# EAGLE library part ETRAX_LX100_MCM_ALL (library axis)
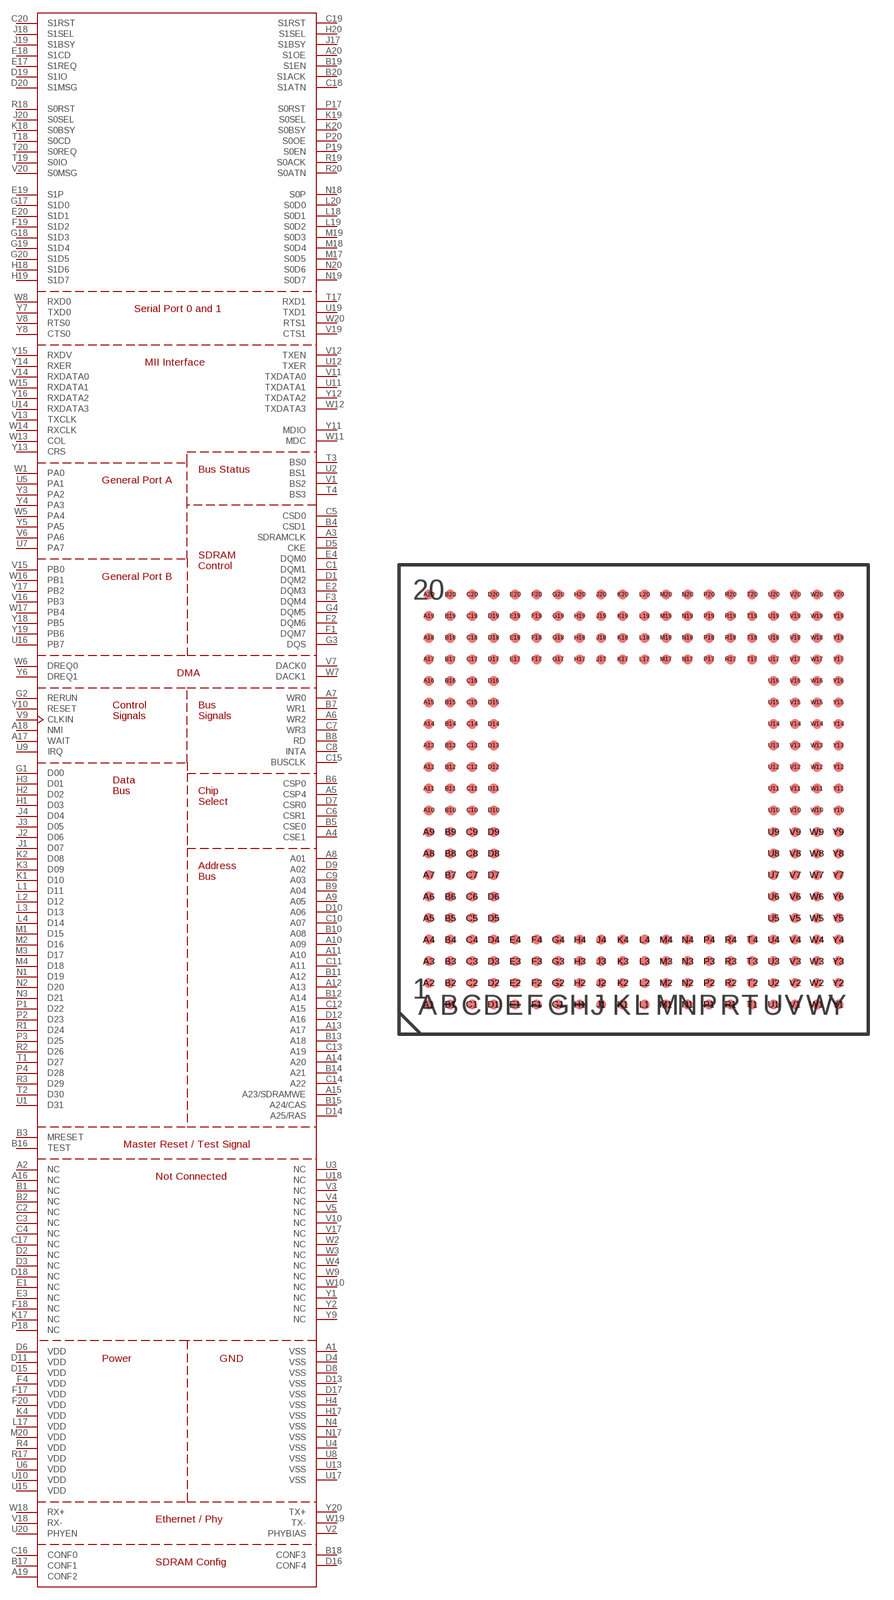
[diagram p0: symbol with the pads of BGA256; footprint BGA256]

Designator prefix -

## ETRAX_LX100_MCM_ALL  [BGA256]
A1  VSS  pwr
A2  NC  nc
A3  SDRAMCLK  out
A4  CSE1  out
A5  CSP4  out
A6  WR2  out
A7  WR0  out
A8  A01  out
A9  A05  out
A10  A09  out
A11  A10  out
A12  A13  out
A13  A17  out
A14  A20  out
A15  A23/SDRAMWE  out
A16  NC  nc
A17  WAIT  in
A18  NMI  in
A19  CONF2
A20  S1OE
B1  NC  nc
B2  NC  nc
B3  MRESET
B4  CSD1  out
B5  CSE0  out
B6  CSP0  out
B7  WR1  out
B8  RD  out
B9  A04  out
B10  A08  out
B11  A12  out
B12  A14  out
B13  A18  out
B14  A21  out
B15  A24/CAS  out
B16  TEST  in
B17  CONF1
B18  CONF3
B19  S1EN
B20  S1ACK
C1  DQM1  out
C2  NC  nc
C3  NC  nc
C4  NC  nc
C5  CSD0  out
C6  CSR1  out
C7  WR3  out
C8  INTA  out
C9  A03  out
C10  A07  out
C11  A11  out
C12  A15  out
C13  A19  out
C14  A22  out
C15  BUSCLK  out
C16  CONF0
C17  NC  nc
C18  S1ATN
C19  S1RST
C20  S1RST
D1  DQM2  out
D2  NC  nc
D3  NC  nc
D4  VSS  pwr
D5  CKE  out
D6  VDD  pwr
D7  CSR0  out
D8  VSS  pwr
D9  A02  out
D10  A06  out
D11  VDD  pwr
D12  A16  out
D13  VSS  pwr
D14  A25/RAS  out
D15  VDD  pwr
D16  CONF4
D17  VSS  pwr
D18  NC  nc
D19  S1IO
D20  S1MSG
E1  NC  nc
E2  DQM3  out
E3  NC  nc
E4  DQM0  out
E17  S1REQ
E18  S1CD
E19  S1P
E20  S1D1
F1  DQM7  out
F2  DQM6  out
F3  DQM4  out
F4  VDD  pwr
F17  VDD  pwr
F18  NC  nc
F19  S1D2
F20  VDD  pwr
G1  D00
G2  RERUN  in
G3  DQS  out
G4  DQM5  out
G17  S1D0
G18  S1D3
G19  S1D4
G20  S1D5
H1  D03
H2  D02
H3  D01
H4  VSS  pwr
H17  VSS  pwr
H18  S1D6
H19  S1D7
H20  S1SEL
J1  D07
J2  D06
J3  D05
J4  D04
J17  S1BSY
J18  S1SEL
J19  S1BSY
J20  S0SEL
K1  D10
K2  D08
K3  D09
K4  VDD  pwr
K17  NC  nc
K18  S0BSY
K19  S0SEL
K20  S0BSY
L1  D11
L2  D12
L3  D13
L4  D14
L17  VDD  pwr
L18  S0D1
L19  S0D2
L20  S0D0
M1  D15
M2  D16
M3  D17
M4  D18
M17  S0D5
M18  S0D4
M19  S0D3
M20  VDD  pwr
N1  D19
N2  D20
N3  D21
N4  VSS  pwr
N17  VSS  pwr
N18  S0P
N19  S0D7
N20  S0D6
P1  D22
P2  D23
P3  D25
P4  D28
P17  S0RST
P18  NC  nc
P19  S0EN
P20  S0OE
R1  D24
R2  D26
R3  D29
R4  VDD  pwr
R17  VDD  pwr
R18  S0RST
R19  S0ACK
R20  S0ATN
T1  D27
T2  D30
T3  BS0
T4  BS3
T17  RXD1  in
T18  S0CD
T19  S0IO
T20  S0REQ
U1  D31
U2  BS1
U3  NC  nc
U4  VSS  pwr
U5  PA1
U6  VDD  pwr
U7  PA7
U8  VSS  pwr
U9  IRQ  in
U10  VDD  pwr
U11  TXDATA1  out
U12  TXER  out
U13  VSS  pwr
U14  RXDATA3  in
U15  VDD  pwr
U16  PB7
U17  VSS  pwr
U18  NC  nc
U19  TXD1  out
U20  PHYEN
V1  BS2
V2  PHYBIAS
V3  NC  nc
V4  NC  nc
V5  NC  nc
V6  PA6
V7  DACK0  out
V8  RTS0  out
V9  CLKIN  in
V10  NC  nc
V11  TXDATA0  out
V12  TXEN  out
V13  TXCLK  in
V14  RXDATA0  in
V15  PB0
V16  PB3
V17  NC  nc
V18  RX-
V19  CTS1  in
V20  S0MSG
W1  PA0
W2  NC  nc
W3  NC  nc
W4  NC  nc
W5  PA4
W6  DREQ0  in
W7  DACK1  out
W8  RXD0  in
W9  NC  nc
W10  NC  nc
W11  MDC  out
W12  TXDATA3  out
W13  COL  in
W14  RXCLK  in
W15  RXDATA1  in
W16  PB1
W17  PB4
W18  RX+
W19  TX-
W20  RTS1  out
Y1  NC  nc
Y2  NC  nc
Y3  PA2
Y4  PA3
Y5  PA5
Y6  DREQ1  in
Y7  TXD0  out
Y8  CTS0  in
Y9  NC  nc
Y10  RESET  in
Y11  MDIO
Y12  TXDATA2  out
Y13  CRS  in
Y14  RXER  in
Y15  RXDV  in
Y16  RXDATA2  in
Y17  PB2
Y18  PB5
Y19  PB6
Y20  TX+

## Footprint BGA256 (pad centres in mm)
BGA256
smd 0.584 x 0.584: A1 -12.065,-12.065; A2 -12.065,-10.795; A3 -12.065,-9.525; A4 -12.065,-8.255; A5 -12.065,-6.985; A6 -12.065,-5.715; A7 -12.065,-4.445; A8 -12.065,-3.175; A9 -12.065,-1.905; A10 -12.065,-0.635; A11 -12.065,0.635; A12 -12.065,1.905; A13 -12.065,3.175; A14 -12.065,4.445; A15 -12.065,5.715; A16 -12.065,6.985; A17 -12.065,8.255; A18 -12.065,9.525; A19 -12.065,10.795; A20 -12.065,12.065; B1 -10.795,-12.065; B2 -10.795,-10.795; B3 -10.795,-9.525; B4 -10.795,-8.255; B5 -10.795,-6.985; B6 -10.795,-5.715; B7 -10.795,-4.445; B8 -10.795,-3.175; B9 -10.795,-1.905; B10 -10.795,-0.635; B11 -10.795,0.635; B12 -10.795,1.905; B13 -10.795,3.175; B14 -10.795,4.445; B15 -10.795,5.715; B16 -10.795,6.985; B17 -10.795,8.255; B18 -10.795,9.525; B19 -10.795,10.795; B20 -10.795,12.065; C1 -9.525,-12.065; C2 -9.525,-10.795; C3 -9.525,-9.525; C4 -9.525,-8.255; C5 -9.525,-6.985; C6 -9.525,-5.715; C7 -9.525,-4.445; C8 -9.525,-3.175; C9 -9.525,-1.905; C10 -9.525,-0.635; C11 -9.525,0.635; C12 -9.525,1.905; C13 -9.525,3.175; C14 -9.525,4.445; C15 -9.525,5.715; C16 -9.525,6.985; C17 -9.525,8.255; C18 -9.525,9.525; C19 -9.525,10.795; C20 -9.525,12.065; D1 -8.255,-12.065; D2 -8.255,-10.795; D3 -8.255,-9.525; D4 -8.255,-8.255; D5 -8.255,-6.985; D6 -8.255,-5.715; D7 -8.255,-4.445; D8 -8.255,-3.175; D9 -8.255,-1.905; D10 -8.255,-0.635; D11 -8.255,0.635; D12 -8.255,1.905; D13 -8.255,3.175; D14 -8.255,4.445; D15 -8.255,5.715; D16 -8.255,6.985; D17 -8.255,8.255; D18 -8.255,9.525; D19 -8.255,10.795; D20 -8.255,12.065; E1 -6.985,-12.065; E2 -6.985,-10.795; E3 -6.985,-9.525; E4 -6.985,-8.255; E17 -6.985,8.255; E18 -6.985,9.525; E19 -6.985,10.795; E20 -6.985,12.065; F1 -5.715,-12.065; F2 -5.715,-10.795; F3 -5.715,-9.525; F4 -5.715,-8.255; F17 -5.715,8.255; F18 -5.715,9.525; F19 -5.715,10.795; F20 -5.715,12.065; G1 -4.445,-12.065; G2 -4.445,-10.795; G3 -4.445,-9.525; G4 -4.445,-8.255; G17 -4.445,8.255; G18 -4.445,9.525; G19 -4.445,10.795; G20 -4.445,12.065; H1 -3.175,-12.065; H2 -3.175,-10.795; H3 -3.175,-9.525; H4 -3.175,-8.255; H17 -3.175,8.255; H18 -3.175,9.525; H19 -3.175,10.795; H20 -3.175,12.065; J1 -1.905,-12.065; J2 -1.905,-10.795; J3 -1.905,-9.525; J4 -1.905,-8.255; J17 -1.905,8.255; J18 -1.905,9.525; J19 -1.905,10.795; J20 -1.905,12.065; K1 -0.635,-12.065; K2 -0.635,-10.795; K3 -0.635,-9.525; K4 -0.635,-8.255; K17 -0.635,8.255; K18 -0.635,9.525; K19 -0.635,10.795; K20 -0.635,12.065; L1 0.635,-12.065; L2 0.635,-10.795; L3 0.635,-9.525; L4 0.635,-8.255; L17 0.635,8.255; L18 0.635,9.525; L19 0.635,10.795; L20 0.635,12.065; M1 1.905,-12.065; M2 1.905,-10.795; M3 1.905,-9.525; M4 1.905,-8.255; M17 1.905,8.255; M18 1.905,9.525; M19 1.905,10.795; M20 1.905,12.065; N1 3.175,-12.065; N2 3.175,-10.795; N3 3.175,-9.525; N4 3.175,-8.255; N17 3.175,8.255; N18 3.175,9.525; N19 3.175,10.795; N20 3.175,12.065; P1 4.445,-12.065; P2 4.445,-10.795; P3 4.445,-9.525; P4 4.445,-8.255; P17 4.445,8.255; P18 4.445,9.525; P19 4.445,10.795; P20 4.445,12.065; R1 5.715,-12.065; R2 5.715,-10.795; R3 5.715,-9.525; R4 5.715,-8.255; R17 5.715,8.255; R18 5.715,9.525; R19 5.715,10.795; R20 5.715,12.065; T1 6.985,-12.065; T2 6.985,-10.795; T3 6.985,-9.525; T4 6.985,-8.255; T17 6.985,8.255; T18 6.985,9.525; T19 6.985,10.795; T20 6.985,12.065; U1 8.255,-12.065; U2 8.255,-10.795; U3 8.255,-9.525; U4 8.255,-8.255; U5 8.255,-6.985; U6 8.255,-5.715; U7 8.255,-4.445; U8 8.255,-3.175; U9 8.255,-1.905; U10 8.255,-0.635; U11 8.255,0.635; U12 8.255,1.905; U13 8.255,3.175; U14 8.255,4.445; U15 8.255,5.715; U16 8.255,6.985; U17 8.255,8.255; U18 8.255,9.525; U19 8.255,10.795; U20 8.255,12.065; V1 9.525,-12.065; V2 9.525,-10.795; V3 9.525,-9.525; V4 9.525,-8.255; V5 9.525,-6.985; V6 9.525,-5.715; V7 9.525,-4.445; V8 9.525,-3.175; V9 9.525,-1.905; V10 9.525,-0.635; V11 9.525,0.635; V12 9.525,1.905; V13 9.525,3.175; V14 9.525,4.445; V15 9.525,5.715; V16 9.525,6.985; V17 9.525,8.255; V18 9.525,9.525; V19 9.525,10.795; V20 9.525,12.065; W1 10.795,-12.065; W2 10.795,-10.795; W3 10.795,-9.525; W4 10.795,-8.255; W5 10.795,-6.985; W6 10.795,-5.715; W7 10.795,-4.445; W8 10.795,-3.175; W9 10.795,-1.905; W10 10.795,-0.635; W11 10.795,0.635; W12 10.795,1.905; W13 10.795,3.175; W14 10.795,4.445; W15 10.795,5.715; W16 10.795,6.985; W17 10.795,8.255; W18 10.795,9.525; W19 10.795,10.795; W20 10.795,12.065; Y1 12.065,-12.065; Y2 12.065,-10.795; Y3 12.065,-9.525; Y4 12.065,-8.255; Y5 12.065,-6.985; Y6 12.065,-5.715; Y7 12.065,-4.445; Y8 12.065,-3.175; Y9 12.065,-1.905; Y10 12.065,-0.635; Y11 12.065,0.635; Y12 12.065,1.905; Y13 12.065,3.175; Y14 12.065,4.445; Y15 12.065,5.715; Y16 12.065,6.985; Y17 12.065,8.255; Y18 12.065,9.525; Y19 12.065,10.795; Y20 12.065,12.065